# Altium footprint library DIODE_TH_DO201AD.PcbLib: 2 footprints
Each footprint in its own frame and in the unit in brackets; x right, y up, seen from the top. Pads: shape width x height; smd on the part's side, far side on the other; paste and mask are expansions set on the pad; w line width, h text height; cw(c..) or ccw(c..) is an arc to the next point about the centre after c.
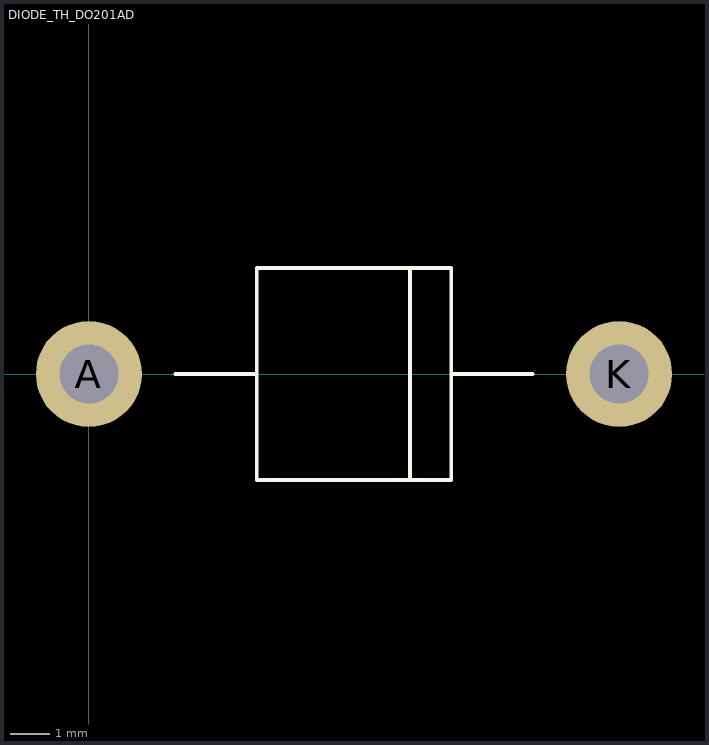
[diagram p0: the footprints below, top view; thin cyan lines are the x and y axes]

## DIODE_TH_DO201AD [mm]
pads (2):
  round 2.7 hole 1.5: A(0,0) K(13.5,0)
Top Overlay:
  lines w0.1: 2.2,0 4.275,0 ; 8.175,-2.7 8.175,2.7 ; 9.225,0 11.3,0 ; 4.275,0 4.275,2.7 9.225,2.7 9.225,-2.7 4.275,-2.7 4.275,0

## PCBComponent_1 [mm]